# EAGLE library part PT8211 (library akizuki)
PT821116-Bit Serial Stero Audio DAC PTC (AKIZUKI DENSHI) : I-17061
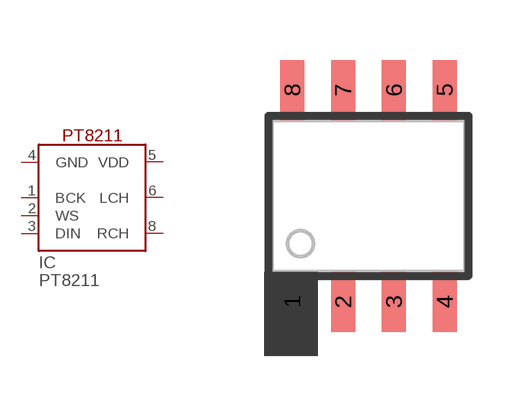
[diagram p1: symbol with the pads of SOP8; footprint SOP8]

Designator prefix IC

## PT8211-S  [SOP8]
1  BCK
2  WS
3  DIN
4  GND
5  VDD
6  LCH
8  RCH

## Footprint SOP8 (pad centres in mm)
smd 0.6 x 1.5: 1 -1.905,-2.65; 2 -0.635,-2.65; 3 0.635,-2.65; 4 1.905,-2.65; 5 1.905,2.65; 6 0.635,2.65; 7 -0.635,2.65; 8 -1.905,2.65